# Altium footprint library PEI_PCB_1.1.PcbLib: 310 footprints (part 3 of 20)
Each footprint in its own frame and in the unit in brackets; x right, y up, seen from the top. Pads: shape width x height; smd on the part's side, far side on the other; paste and mask are expansions set on the pad; w line width, h text height; cw(c..) or ccw(c..) is an arc to the next point about the centre after c.
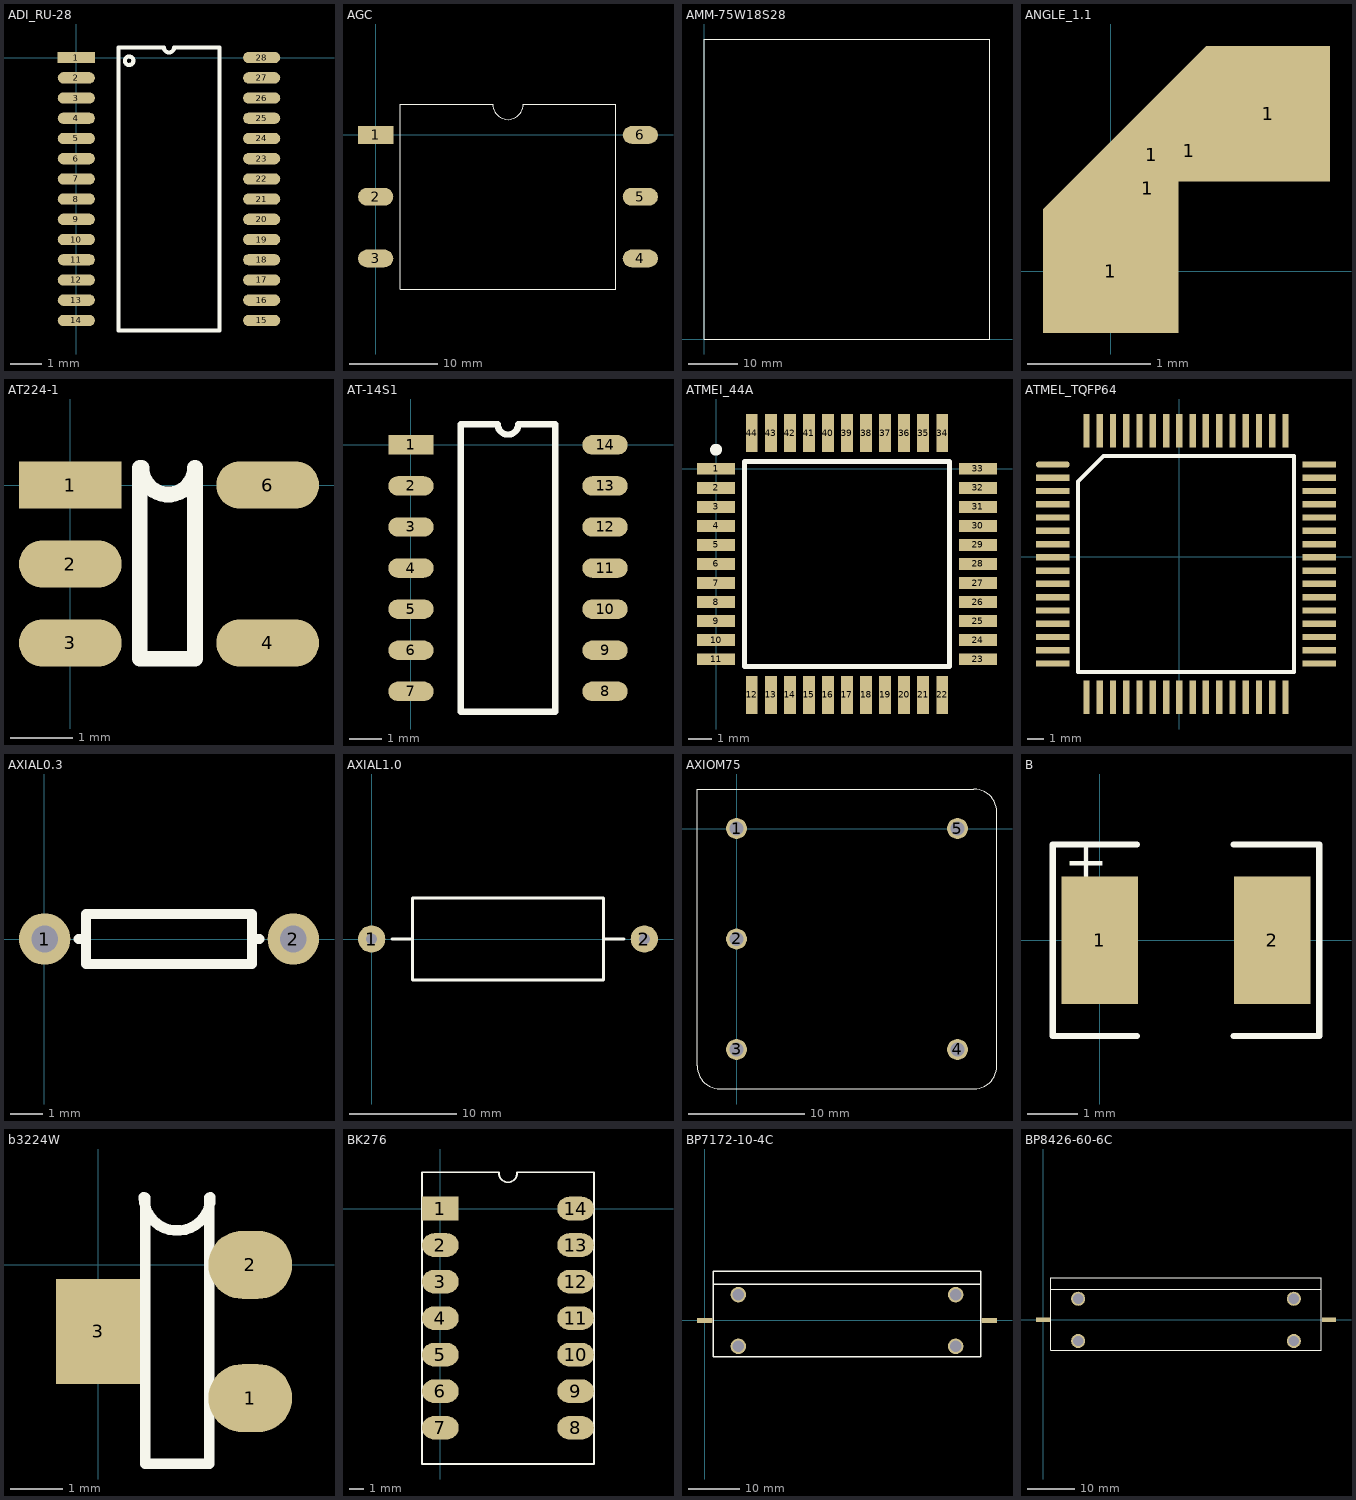
[diagram p2: the footprints below, top view; thin cyan lines are the x and y axes]

## ADI_RU-28 [mil]
pads (28):
  rect 46.9x14.2 smd: 1(0,0)
  oval 46.9x14.2 smd: 2(0,-25.5) 3(0,-51) 4(0,-76.5) 5(0,-102) 6(0,-127.5) 7(0,-153) 8(0,-178.5) 9(0,-204) 10(0,-229.5) 11(0,-255) 12(0,-280.5) 13(0,-306) 14(0,-331.5) 15(233.8,-331.5) 16(233.8,-306) 17(233.8,-280.5) 18(233.8,-255) 19(233.8,-229.5) 20(233.8,-204) 21(233.8,-178.5) 22(233.8,-153) 23(233.8,-127.5) 24(233.8,-102) 25(233.8,-76.5) 26(233.8,-51) 27(233.8,-25.5) 28(233.8,0)
TopOverlay:
  circle w5: c66.61,-4 r5.39
  lines w5: 53.45,-344.25 53.45,12.75 110.53,12.75 ccw(c116.9,12.75) 123.28,12.75 180.35,12.75 180.35,-344.25 53.45,-344.25

## AGC [mm]
pads (6):
  rect 4x2 smd: 1(0,0)
  oval 4x2 smd: 2(0,-7) 3(0,-14) 4(30,-14) 5(30,-7) 6(30,0)
TopOverlay:
  lines w0.127: 2.762,-17.5 2.762,3.5 13.25,3.5 ccw(c15,3.5) 16.75,3.5 27.238,3.5 27.238,-17.5 2.762,-17.5

## AMM-75W18S28 [mm]
TopOverlay:
  lines w0.127: 0,0 0,60.9 0.1,61 58,61 58,0 0,0

## ANGLE_1.1 [mm]
pads (5):
  rect 1.1x1 smd: 1(0,0)
  rect 0.5x0.5 smd: 1(0.3,0.669) 1(0.633,0.972)
  rect 1.87x0.62 smd rot 45: 1(0.33,0.942)
  rect 1x1.1 smd: 1(1.272,1.272)

## AT224-1 [mil]
pads (5):
  rect 65x30 smd: 1(0,0)
  oval 65x30 smd: 2(0,-50) 3(0,-100) 4(125,-100) 6(125,0)
TopOverlay:
  lines w10: 44,11 44,-110 79,-110 79,11 cw(c62,11) 45,11

## AT-14S1 [mm]
pads (14):
  rect 1.4x0.6 smd: 1(0,0)
  oval 1.4x0.6 smd: 2(0,-1.27) 3(0,-2.54) 4(0,-3.81) 5(0,-5.08) 6(0,-6.35) 7(0,-7.62) 8(6,-7.62) 9(6,-6.35) 10(6,-5.08) 11(6,-3.81) 12(6,-2.54) 13(6,-1.27) 14(6,0)
TopOverlay:
  lines w0.2: 1.535,-8.255 1.535,0.635 2.682,0.635 ccw(c3,0.635) 3.317,0.635 4.465,0.635 4.465,-8.255 1.535,-8.255

## ATMEI_44A [mm]
pads (44):
  rect 1.6x0.5 smd: 1(0,0) 2(0,-0.8) 3(0,-1.6) 4(0,-2.4) 5(0,-3.2) 6(0,-4) 7(0,-4.8) 8(0,-5.6) 9(0,-6.4) 10(0,-7.2) 11(0,-8) 23(11,-8) 24(11,-7.2) 25(11,-6.4) 26(11,-5.6) 27(11,-4.8) 28(11,-4) 29(11,-3.2) 30(11,-2.4) 31(11,-1.6) 32(11,-0.8) 33(11,0)
  rect 0.5x1.6 smd: 12(1.5,-9.5) 13(2.3,-9.5) 14(3.1,-9.5) 15(3.9,-9.5) 16(4.7,-9.5) 17(5.5,-9.5) 18(6.3,-9.5) 19(7.1,-9.5) 20(7.9,-9.5) 21(8.7,-9.5) 22(9.5,-9.5) 34(9.5,1.5) 35(8.7,1.5) 36(7.9,1.5) 37(7.1,1.5) 38(6.3,1.5) 39(5.5,1.5) 40(4.7,1.5) 41(3.9,1.5) 42(3.1,1.5) 43(2.3,1.5) 44(1.5,1.5)
TopOverlay:
  circle w0.25: c0,0.8 r0.125
  lines w0.2: 1.2,-8.3 9.8,-8.3 9.8,0.3 1.2,0.3 1.2,-8.3

## ATMEL_TQFP64 [mil]
pads (64):
  oval 80x15 smd: 1(-300.35,219.57)
  rect 80x15 smd: 2(-300.35,188.07) 3(-300.35,156.57) 4(-300.35,125.07) 5(-300.35,93.57) 6(-300.35,62.07) 7(-300.35,30.57) 8(-300.35,-0.93) 9(-300.35,-32.43) 10(-300.35,-63.93) 11(-300.35,-95.43) 12(-300.35,-126.93) 13(-300.35,-158.43) 14(-300.35,-189.93) 15(-300.35,-221.43) 16(-300.35,-252.93) 33(332.15,-252.93) 34(332.15,-221.43) 35(332.15,-189.93) 36(332.15,-158.43) 37(332.15,-126.93) 38(332.15,-95.43) 39(332.15,-63.93) 40(332.15,-32.43) 41(332.15,-0.93) 42(332.15,30.57) 43(332.15,62.07) 44(332.15,93.57) 45(332.15,125.07) 46(332.15,156.57) 47(332.15,188.07) 48(332.15,219.57)
  rect 15x80 smd: 17(-220.35,-332.93) 18(-188.85,-332.93) 19(-157.35,-332.93) 20(-125.85,-332.93) 21(-94.35,-332.93) 22(-62.85,-332.93) 23(-31.35,-332.93) 24(0.15,-332.93) 25(31.65,-332.93) 26(63.15,-332.93) 27(94.65,-332.93) 28(126.15,-332.93) 29(157.65,-332.93) 30(189.15,-332.93) 31(220.65,-332.93) 32(252.15,-332.93) 49(252.15,299.57) 50(220.65,299.57) 51(189.15,299.57) 52(157.65,299.57) 53(126.15,299.57) 54(94.65,299.57) 55(63.15,299.57) 56(31.65,299.57) 57(0.15,299.57) 58(-31.35,299.57) 59(-62.85,299.57) 60(-94.35,299.57) 61(-125.85,299.57) 62(-157.35,299.57) 63(-188.85,299.57) 64(-220.35,299.57)
TopOverlay:
  lines w10: -240.35,-272.93 -240.35,179.57 -180.35,239.57 272.15,239.57 272.15,-272.93 -240.35,-272.93

## AXIAL0.3 [mil]
pads (2):
  round 62 hole 32: 1(0.45,0.44) 2(300.45,0.44)
TopOverlay:
  lines w12: 41.45,0.44 50.45,0.44 ; 259.45,0.44 250.45,0.44 ; 250.45,0.44 250.45,-29.56 50.45,-29.56 50.45,30.44 250.45,30.44 250.45,0.44

## AXIAL1.0 [mil]
pads (2):
  round 100 hole 40: 1(-0.43,0.13) 2(999.57,0.13)
TopOverlay:
  lines w12: 74.57,0.13 149.57,0.13 ; 849.57,0.13 924.57,0.13 ; 149.57,-149.87 149.57,150.13 849.57,150.13 849.57,-149.87 149.57,-149.87

## AXIOM75 [mm]
pads (5):
  round 1.8 hole 1.2: 1(0,0) 2(0,-9.5) 3(0,-19) 4(19,-19) 5(19,0)
TopOverlay:
  lines w0.1: -3.4,-20.4 ccw(c-1.4,-20.4) -1.4,-22.4 20.4,-22.4 ccw(c20.4,-20.4) 22.4,-20.4 22.4,1.4 ccw(c20.4,1.4) 20.4,3.4 -3.4,3.4 -3.4,-20.4

## B [mil]
pads (2):
  rect 60x100 smd: 1(0,0) 2(135,0)
TopOverlay:
  lines w5: 29,-75 -37,-75 -37,75 29,75 ; 105,-75 172,-75 172,75 105,75
  text "+" at -28,47 h30

## b3224W [mm]
pads (3):
  oval 1.6x1.3 smd: 1(2.9,-2.54) 2(2.9,0)
  rect 1.6x2 smd: 3(0,-1.27)
TopOverlay:
  lines w0.2: 0.871,1.288 ccw(c1.506,1.288) 2.141,1.288 ; 0.897,-3.797 0.897,1.283 ; 0.917,-3.795 2.07,-3.795 ; 2.116,-3.797 2.116,1.283

## BK276 [mil]
pads (14):
  rect 100x65 smd: 1(0,0)
  oval 100x65 smd: 2(0,-100) 3(0,-200) 4(0,-300) 5(0,-400) 6(0,-500) 7(0,-600) 8(370,-600) 9(370,-500) 10(370,-400) 11(370,-300) 12(370,-200) 13(370,-100) 14(370,0)
TopOverlay:
  lines w5: 160,97 ccw(c185,97) 210,97 ; 160,99.21 -50.39,99.21 -50.39,-699.21 420.47,-699.21 420.47,99.21 210,99.21

## BP7172-10-4C [mm]
pads (6):
  rect 3x1 smd: 1(0,0) 2(55,0)
  round 3 hole 2.2: ""(6.5,-5) ""(6.5,5) ""(48.5,-5) ""(48.5,5)
TopOverlay:
  lines w0.254: 1.6,7 53.4,7 ; 1.6,-7 1.6,9.5 53.4,9.5 53.4,-7 1.6,-7

## BP8426-60-6C [mm]
pads (6):
  rect 3x1 smd: 1(0,0) 2(61,0)
  round 3 hole 2.2: ""(7.5,-4.5) ""(7.5,4.5) ""(53.5,-4.5) ""(53.5,4.5)
TopOverlay:
  lines w0.2: 1.6,-6.5 59.4,-6.5 ; 1.6,9 59.4,9
  lines w0.254: 1.6,-6.5 1.6,9 ; 1.6,6.5 59.4,6.5 ; 59.4,-6.5 59.4,9